# Altium schematic symbol library S8550_SOT23.SchLib: 1 symbol
Pins are listed as number, name and electrical type; pins without a type are passive.

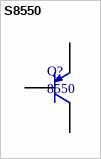
[diagram p0: symbol S8550]

## S8550
designator Q?, comment 8550
PNP三极管
footprint S8550_SOT23 (PNP三极管)
pins: 1, 2, 3